# Altium schematic symbol library SBD SK515B.Schlib: 1 symbol
Pins are listed as number, name and electrical type; pins without a type are passive.

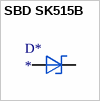
[diagram p0: symbol SBD SK515B]

## SBD SK515B
designator D*
150V 5A 850mV @ 5A SMB(DO-214AA) Schottky Barrier Diodes (SBD) RoHS; ComponentLink1Description: LCSC - SMC(Sangdest Microelectronicstronic (Nanjing)) SK515B; ComponentLink1URL: https://lcsc.com/product-detail/Schottky-Barrier-Diodes-SBD_SMC-Sangdest-Microelectronicstronic-Nanjing-SK515B_C139680.html; LCSC Part #: C139680
footprint SMB(DO-214AA)
pins: 1 A, 2 K